# Altium schematic symbol library UT28F256LVQLE.Schlib: 1 symbol
Pins are listed as number, name and electrical type; pins without a type are passive.

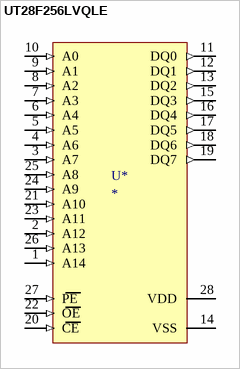
[diagram p0: symbol UT28F256LVQLE]

## UT28F256LVQLE
designator U*
Назначение: Модуль памяти; Наименование: UT28F256LVQLE
pins: 1 A14 (in), 2 A12 (in), 3 A7 (in), 4 A6 (in), 5 A5 (in), 6 A4 (in), 7 A3 (in), 8 A2 (in), 9 A1 (in), 10 A0 (in), 11 DQ0 (out), 12 DQ1 (out), 13 DQ2 (out), 14 VSS (power), 15 DQ3 (out), 16 DQ4 (out), 17 DQ5 (out), 18 DQ6 (out), 19 DQ7 (out), 20 CE (in), 21 A10 (in), 22 OE (in), 23 A11 (in), 24 A9 (in), 25 A8 (in), 26 A13 (in), 27 PE (in), 28 VDD (power)